# EAGLE library part 2N7002DW-7-F (library FSAE Electric (Alexander Ray's conflicted copy 2016-04-02))
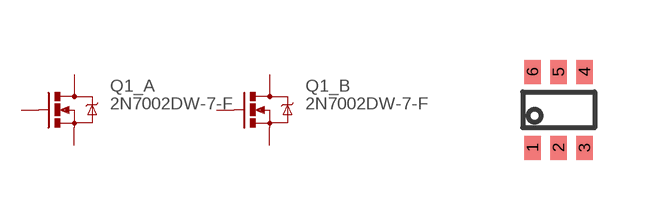
[diagram p61: symbol with the pads of SOT-363; footprint SOT-363]

Designator prefix Q1; gates _A=MOSFET-N _B=MOSFET-N

## 2N7002DW-7-F (PARTNO: 2N7002DW-7-F)  [SOT-363]
1  _B:S  pas
2  _B:G  pas
3  _A:D  pas
4  _A:S  pas
5  _A:G  pas
6  _B:D  pas

## Footprint SOT-363 (pad centres in mm)
smd 0.42 x 0.6: 1 -0.65,-0.95; 2 0,-0.95; 3 0.65,-0.95; 4 0.65,0.95; 5 0,0.95; 6 -0.65,0.95